# EAGLE library part ICSP (library dpx-MISC_PARTS)
PIN HEADER
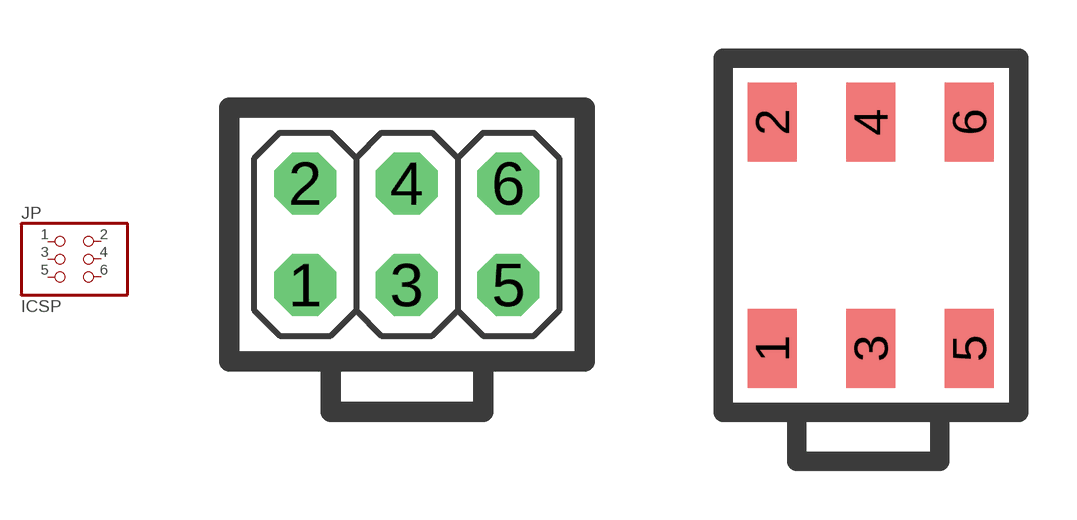
[diagram p1: symbol with the pads of 2X3-ICSP; footprints 2X3-ICSP, 2X03_SMT]

Designator prefix JP

## ICSP  [2X3-ICSP]
1  1-MISO  pas
2  2-+5V  pas
3  3-SCK  pas
4  4-MOSI  pas
5  5-RESET  pas
6  6-GND  pas

## ICSPSMT  [2X03_SMT]
Pads as for 2X3-ICSP

## Footprint 2X3-ICSP (pad centres in mm)
PIN HEADER
drill 0.95 pad 1.55 octagon: 1 -2.54,-1.27; 2 -2.54,1.27; 3 0,-1.27; 4 0,1.27; 5 2.54,-1.27; 6 2.54,1.27

## Footprint 2X03_SMT (pad centres in mm)
smd 1.27 x 2.032: 1 -2.54,-2.921; 2 -2.54,2.921; 3 0,-2.921; 4 0,2.921; 5 2.54,-2.921; 6 2.54,2.921